# EAGLE library part TL072 (library Opamps)
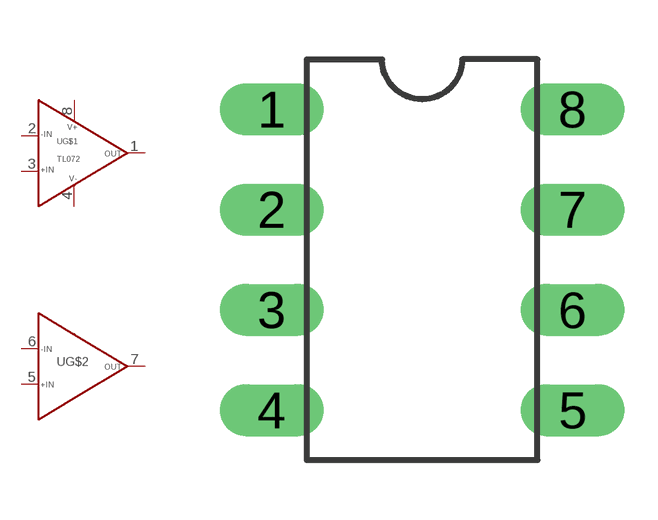
[diagram p6: symbol with the pads of DIL08; footprint DIL08]

Designator prefix U; gates G$1=CH1 G$2=CHGEN

## TL072  [DIL08]
1  G$1:OUTA
2  G$1:-INA
3  G$1:+INA
4  G$1:GND
5  G$2:+INB
6  G$2:-INB
7  G$2:OUTB
8  G$1:VCC

## Footprint DIL08 (pad centres in mm)
drill 0.813 long: 1 -3.81,3.81; 2 -3.81,1.27; 3 -3.81,-1.27; 4 -3.81,-3.81; 5 3.81,-3.81; 6 3.81,-1.27; 7 3.81,1.27; 8 3.81,3.81